# Altium schematic symbol library CLIK_Mate2.0.SchLib: 5 symbols
Pins are listed as number, name and electrical type; pins without a type are passive.

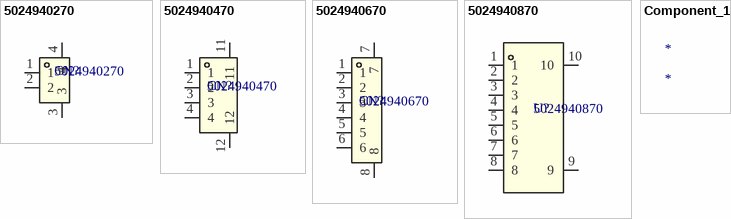
[diagram p0: symbols 5024940270 to Component_1]

## 5024940270
designator CN?
插针结构:1x2P;间距:2mm;安装方式:卧贴;参考系列:CLIK-Mate;总PIN数:2P;排数:1;每排PIN数:2;额定电流:3A;触头镀层:锡;工作温度:-40℃~+105℃;; Manufacturer: MOLEX; SEEX_AUTHOR: ref42; SEEX_COMPONENT_ID: C587928; Current Rating: 3A; Number of PINs Per Row: 2; Pins Structure: 1x2P; Pitch: 2mm; Voltage Rating: 250V; SEEX_PROJECT_URL: https://github.com/ref42/seex; Footprint: CONN-SMD_2P-P2.00_5024940270; Contact Plating: 锡; Datasheet: https://www.molex.com/content/dam/molex/molex-dot-com/products/automated/en-us/salesdrawingpdf/502/502494/5024940270_sd.pdf?inline\; JLCPCB Part Class: Extended Part; LCSC Part Name: 1x2P 间距:2mm 卧贴 系列:CLIK-Mate; Manufacturer Part: 5024940270; Mounting Type: 卧贴; Number of Pins: 2P; Number of Rows: 1; Operating Temperature: -40℃~+105℃; Reference Series: CLIK-Mate; Supplier: LCSC; Supplier Footprint: SMD,P=2mm,卧贴; Supplier Part: C587928
footprint CONN-SMD_2P-P2.00_5024940270 (卧贴)
pins: 1, 2, 3, 4

## 5024940470
designator CN?
插针结构:1x4P;间距:2mm;安装方式:卧贴;参考系列:CLIK-Mate;总PIN数:4P;排数:1;每排PIN数:4;额定电流:3A;触头材质:铜合金;触头镀层:锡;工作温度:-40℃~+105℃;; Manufacturer: MOLEX; SEEX_AUTHOR: ref42; SEEX_COMPONENT_ID: C587929; Current Rating: 3A; Flame Retardant Rating: UL94V-0; Number of PINs Per Row: 4; Pins Structure: 1x4P; Pitch: 2mm; Voltage Rating: 250V; Y-Width of Bottom Edge on Board: 7.45mm; Z-Height of the Board: 6.85mm; SEEX_PROJECT_URL: https://github.com/ref42/seex; Footprint: CONN-SMD_5024940470; Contact Material: 铜合金; Contact Plating: 锡; Datasheet: https://www.molex.com/content/dam/molex/molex-dot-com/products/automated/en-us/salesdrawingpdf/502/502494/5024940470_sd.pdf?inline\; JLCPCB Part Class: Extended Part; LCSC Part Name: 1x4P 间距:2mm 卧贴 系列:CLIK-Mate; Manufacturer Part: 5024940470; Mounting Type: 卧贴; Number of Pins: 4P; Number of Rows: 1; Operating Temperature: -40℃~+105℃; Reference Series: CLIK-Mate; Supplier: LCSC; Supplier Footprint: SMD,P=2mm,卧贴; Supplier Part: C587929
footprint CONN-SMD_5024940470 (卧贴)
pins: 1, 2, 3, 4, 11, 12

## 5024940670
designator CN?
插针结构:1x6P;间距:2mm;安装方式:卧贴;总PIN数:6P;排数:1;每排PIN数:6;额定电流:3A;触头镀层:锡;工作温度:-40℃~+105℃;; Manufacturer: MOLEX; SEEX_AUTHOR: ref42; SEEX_COMPONENT_ID: C587930; Current Rating: 3A; Number of PINs Per Row: 6; Pins Structure: 1x6P; Pitch: 2mm; Voltage Rating: 250V; SEEX_PROJECT_URL: https://github.com/ref42/seex; Footprint: CONN-SMD_5024940670; Contact Plating: 锡; Datasheet: https://www.molex.com/content/dam/molex/molex-dot-com/products/automated/en-us/salesdrawingpdf/502/502494/5024940670_sd.pdf?inline\; JLCPCB Part Class: Extended Part; LCSC Part Name: 1x6P 间距:2mm 卧贴; Manufacturer Part: 5024940670; Mounting Type: 卧贴; Number of Pins: 6P; Number of Rows: 1; Operating Temperature: -40℃~+105℃; Supplier: LCSC; Supplier Footprint: SMD,P=2mm,卧贴; Supplier Part: C587930
footprint CONN-SMD_5024940670 (卧贴)
pins: 1, 2, 3, 4, 5, 6, 7, 8

## 5024940870
designator U?
插针结构:1x8P;间距:2mm;安装方式:卧贴;参考系列:CLIK-Mate;总PIN数:8P;排数:1;每排PIN数:8;额定电流:3A;触头材质:铜合金;触头镀层:锡;工作温度:-40℃~+105℃;; Manufacturer: MOLEX; SEEX_AUTHOR: ref42; SEEX_COMPONENT_ID: C587931; Current Rating: 3A; Flame Retardant Rating: UL94V-0; Number of PINs Per Row: 8; Pins Structure: 1x8P; Pitch: 2mm; Voltage Rating: 250V; SEEX_PROJECT_URL: https://github.com/ref42/seex; Footprint: CONN-SMD_3P-P2.00_5024940870; Contact Material: 铜合金; Contact Plating: 锡; Datasheet: https://www.molex.com/content/dam/molex/molex-dot-com/products/automated/en-us/salesdrawingpdf/502/502494/5024940870_sd.pdf?inline\; JLCPCB Part Class: Extended Part; LCSC Part Name: 1x8P 间距:2mm 卧贴 系列:CLIK-Mate; Manufacturer Part: 5024940870; Mounting Type: 卧贴; Number of Pins: 8P; Number of Rows: 1; Operating Temperature: -40℃~+105℃; Reference Series: CLIK-Mate; Supplier: LCSC; Supplier Footprint: SMD,P=2mm,卧贴; Supplier Part: C587931
footprint CONN-SMD_3P-P2.00_5024940870 (卧贴)
pins: 1, 2, 3, 4, 5, 6, 7, 8, 9, 10

## Component_1
designator *